# Altium footprint library VBlib_Resistors.PcbLib: 22 footprints (part 2 of 2)
Each footprint in its own frame and in the unit in brackets; x right, y up, seen from the top. Pads: shape width x height; smd on the part's side, far side on the other; paste and mask are expansions set on the pad; w line width, h text height; cw(c..) or ccw(c..) is an arc to the next point about the centre after c.
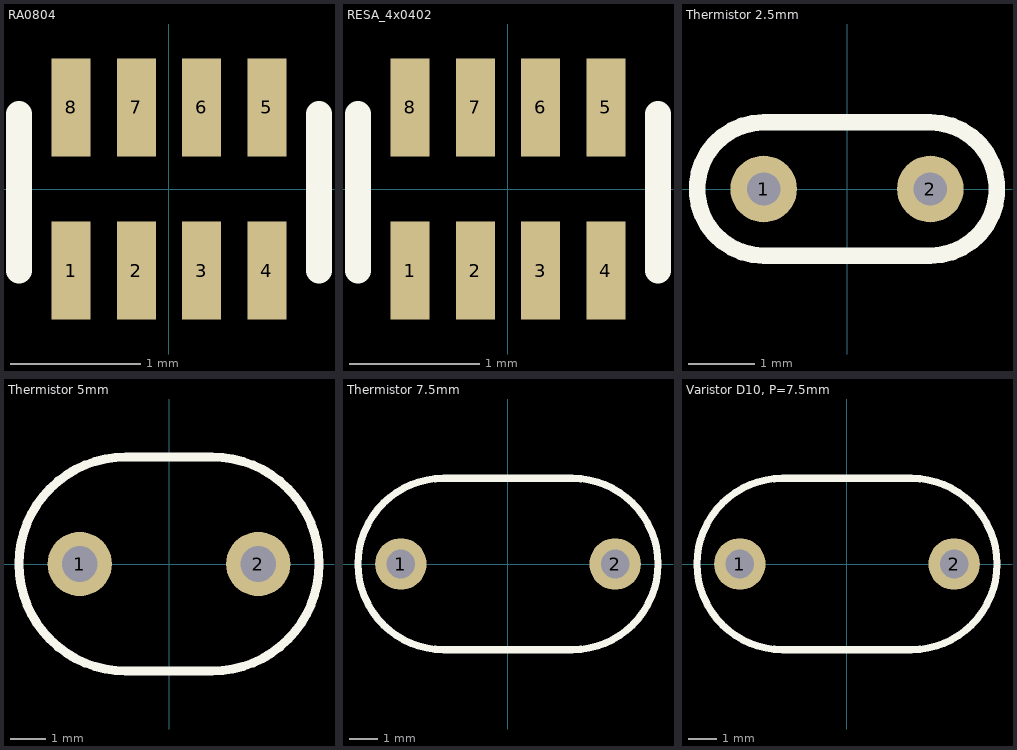
[diagram p1: the footprints below, top view; thin cyan lines are the x and y axes]

## RA0804 [mm] "Chip Resistor array, 4x0402 Body 2x1mm"
height 0.45
pads (8):
  rect 0.3x0.75 smd: 1(-0.75,-0.625) 2(-0.25,-0.625) 3(0.25,-0.625) 4(0.75,-0.625) 5(0.75,0.625) 6(0.25,0.625) 7(-0.25,0.625) 8(-0.75,0.625)
Top Overlay:
  lines w0.2: -1.15,-0.625 -1.15,0.575 ; 1.15,-0.625 1.15,0.575
3D body "YC124.STEP": height 0.45, standoff 0, extent -1,-0.5 1,0.5

## RESA_4x0402 [mm] "Chip Resistor, Body 1.1x0.5mm, IPC High Density"
height 0.55
pads (8):
  rect 0.3x0.75 smd: 1(-0.75,-0.625) 2(-0.25,-0.625) 3(0.25,-0.625) 4(0.75,-0.625) 5(0.75,0.625) 6(0.25,0.625) 7(-0.25,0.625) 8(-0.75,0.625)
Top Overlay:
  lines w0.2: -1.15,-0.625 -1.15,0.575 ; 1.15,-0.625 1.15,0.575
3D body: height 0.55, standoff 0, extent -0.95,-0.525 0.95,0.475

## Thermistor 2.5mm [mm] "Площадка под термистор, шаг 2.5мм"
height 10
pads (2):
  round 1 hole 0.5: 1(-1.25,0) 2(1.25,0)
Top Overlay:
  lines w0.25: -1.25,-1 cw(c-1.25,0) -1.25,1 1.25,1 cw(c1.25,0) 1.25,-1 -1.25,-1

## Thermistor 5mm [mm] "Площадка под термистор, шаг 5мм"
height 10
pads (2):
  round 1.8 hole 1: 1(-2.5,0) 2(2.5,0)
Top Overlay:
  lines w0.25: -1.22,-3 1.2,-3 ccw(c1.2,0) 1.2,3 -1.2,3 ccw(c-1.2,0) -1.2,-3

## Thermistor 7.5mm [mm]
pads (2):
  round 1.8 hole 1: 1(-3.75,0) 2(3.75,0)
Top Overlay:
  lines w0.25: -2.25,-3 cw(c-2.25,0) -2.25,3 2.25,3 cw(c2.25,0) 2.25,-3 -2.25,-3
3D body "S10K471.STEP": height 12.5, standoff -2.5, extent -5.274,-2.907 5.269,2.768

## Varistor D10, P=7.5mm [mm]
pads (2):
  round 1.8 hole 1: 1(-3.75,0) 2(3.75,0)
Top Overlay:
  lines w0.25: -2.25,-3 cw(c-2.25,0) -2.25,3 2.25,3 cw(c2.25,0) 2.25,-3 -2.25,-3
3D body "S10K471.STEP": height 12.5, standoff -2.5, extent -5.274,-2.907 5.269,2.768